# EAGLE library part BM04B-ACHSS-A-GAN-TF_LF__SN_ (library BM04B-ACHSS-A-GAN-TF_LF__SN_)
CONN HEADER SMD R/A 4POS 1.2MM Source: Datasheet <https://www.jst-mfg.com/product/pdf/eng/eACH.pdf>
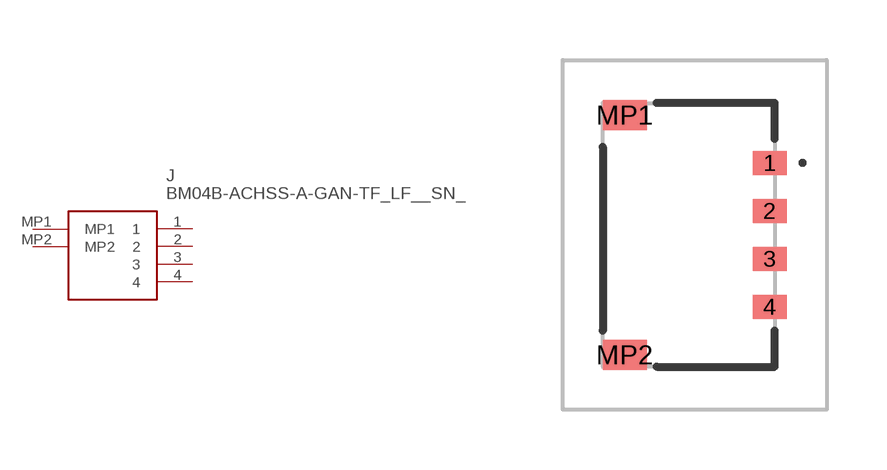
[diagram p0: symbol with the pads of BM04BACHSSAGANTFLFSN; footprint BM04BACHSSAGANTFLFSN]

Designator prefix J

## BM04B-ACHSS-A-GAN-TF_LF__SN_ (Description: CONN HEADER SMD R/A 4POS 1.2MM; Height: 1.4mm; Manufacturer_Name: JST (JAPAN SOLDERLESS TERMINALS); Manufacturer_Part_Number: BM04B-ACHSS-A-GAN-TF(LF)(SN))  [BM04BACHSSAGANTFLFSN]
1  1
2  2
3  3
4  4
MP1  MP1
MP2  MP2

## Footprint BM04BACHSSAGANTFLFSN (pad centres in mm)
BM04B-ACHSS-A-GAN-TF(LF)(SN)-2
smd 0.85 x 0.6: 1 2.025,1.8; 2 2.025,0.6; 3 2.025,-0.6; 4 2.025,-1.8
smd 1.1 x 0.75: MP1 -1.6,3; MP2 -1.6,-3